# Altium footprint library HTMD-PREAMP2.PcbLib: 26 footprints (part 2 of 2)
Each footprint in its own frame and in the unit in brackets; x right, y up, seen from the top. Pads: shape width x height; smd on the part's side, far side on the other; paste and mask are expansions set on the pad; w line width, h text height; cw(c..) or ccw(c..) is an arc to the next point about the centre after c.
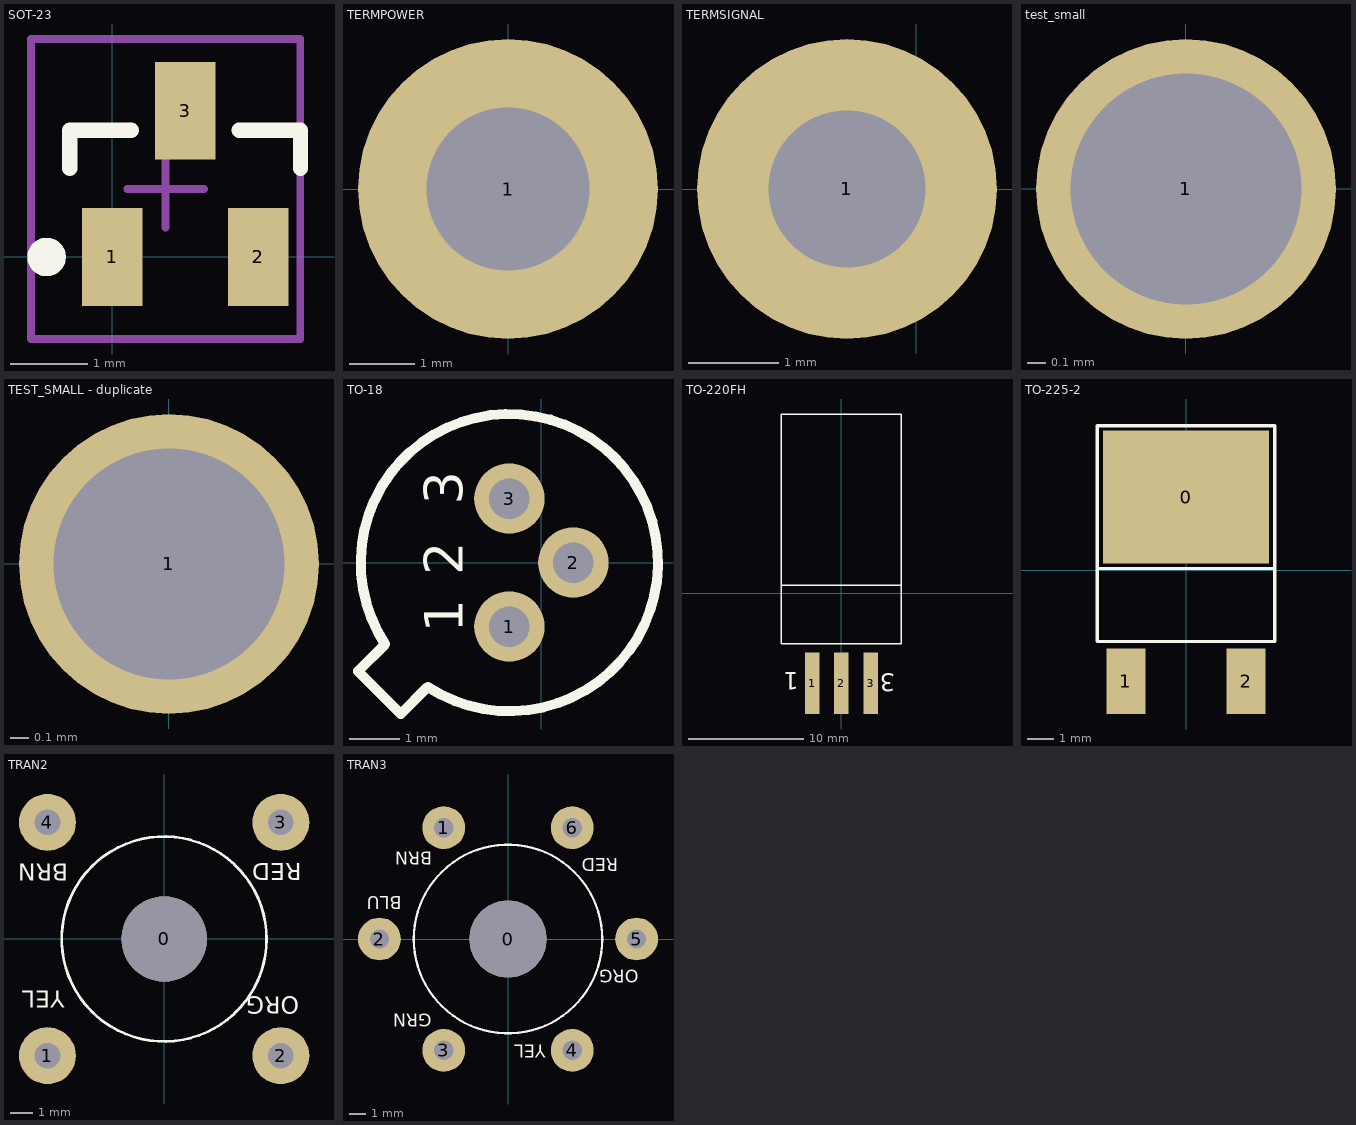
[diagram p1: the footprints below, top view; thin cyan lines are the x and y axes]

## SOT-23 [mil]
pads (3):
  rect 31x50 smd: 1(0,0) 2(74.8,0) 3(37.4,74.8)
Top Overlay:
  circle w9.84: c-33.46,0 r4.92
  lines w7.87: -21.65,45.28 -21.65,64.96 9.84,64.96 ; 64.96,64.96 96.46,64.96 96.46,45.28
Mechanical 15:
  lines w3.94: 7.72,34.8 47.09,34.8 ; 27.4,15.12 27.4,54.49 ; -41.5,-41.97 -41.5,111.57 96.3,111.57 96.3,-41.97 -41.5,-41.97

## TERMPOWER [mil]
pads (1):
  round 180 hole 98: 1(0,0)

## TERMSIGNAL [mil]
pads (1):
  round 130 hole 68: 1(-30,0)

## test_small [mil]
height 74.8
pads (1):
  round 65 hole 50: 1(0,0)
Top Overlay:
  circle w6: c0,0 r27.5

## TEST_SMALL - duplicate [mil]
pads (1):
  round 65 hole 50: 1(0,0)
Top Overlay:
  circle w6: c0,0 r27.5

## TO-18 [mm]
pads (3):
  round 1.4 hole 0.8: 1(-0.635,-1.27) 2(0.635,0) 3(-0.635,1.27)
Top Overlay:
  lines w0.2: -3.64,-2.156 -2.791,-3.005 -2.253,-2.467 ccw(c-0.635,0) -3.102,-1.618 -3.64,-2.156
  text "2" at -1.562,-0.25 h0.76
  text "1" at -1.562,-1.393 h0.76
  text "3" at -1.562,1.147 h0.76

## TO-220FH [mm]
pads (3):
  rect 1.27x5.35 smd: 1(-2.54,-7.818) 2(0,-7.818) 3(2.54,-7.818)
Top Overlay:
  lines w0.127: -5.207,0.699 5.207,0.699 ; -5.207,-4.381 -5.207,15.557 5.207,15.557 5.207,-4.381 -5.207,-4.381
  text "3" at 4.677,-6.987 h1.52
  text "1" at -3.698,-6.887 h1.52

## TO-225-2 [mm]
pads (3):
  rect 6.35x5.08 smd: 0(0,2.794)
  rect 1.5x2.5 smd: 1(-2.3,-4.255) 2(2.3,-4.255)
Top Overlay:
  lines w0.127: -3.4,0.064 3.4,0.064 ; -3.4,-2.73 3.4,-2.73 3.4,5.524 -3.4,5.524 -3.4,-2.73

## TRAN2 [mil]
pads (5):
  round 150 hole 150: 0(0,0)
  round 100 hole 45: 1(-205,-205) 2(205,-205) 3(205,205) 4(-205,205)
Top Overlay:
  circle w5: c0,0 r180
  text "YEL" at -174.21,-90.55 h30
  text "BRN" at -168.31,131.89 h30
  text "ORG" at 237.2,-101.38 h30
  text "RED" at 242.13,132.87 h30

## TRAN3 [mil]
pads (7):
  round 180 hole 180: 0(0,0)
  round 100 hole 45: 1(-150,259.81) 2(-300,0) 3(-150,-259.81) 4(150,-259.81) 5(300,0) 6(150,259.81)
Top Overlay:
  circle w5: c0,0 r220
  text "GRN" at -178.15,-174.52 h30
  text "BLU" at -248.03,100.09 h30
  text "YEL" at 87.6,-246.37 h30
  text "BRN" at -177.17,203.43 h30
  text "ORG" at 305.12,-71.17 h30
  text "RED" at 256.89,188.67 h30